# Altium schematic symbol library Antenna.SchLib: 4 symbols
Pins are listed as number, name and electrical type; pins without a type are passive.

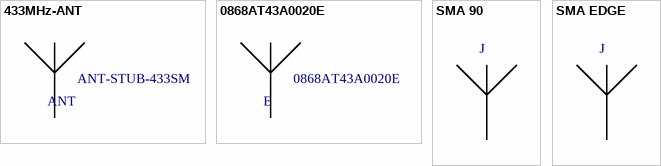
[diagram p0: symbols 433MHz-ANT to SMA EDGE]

## 433MHz-ANT
designator ANT  Manufacturer Code: ANT-STUB-433SM  (hidden comment: *)  (graphical)
Manufacturer: RF SOLUTIONS; Frequency: 433MHz; Impedance: 50 Ohm; Farnell Code: 2133440; Unit Price: 4,44 €
pins: 1, 2

## 0868AT43A0020E
designator E  Manufacturer Code: 0868AT43A0020E  (hidden comment: *)
Manufacturer: Johanson Technology Inc.; Frequency: 858~878MHz; Input Power: 3000mW; Impedance: 50 Ohm; Farnell Code: 1885493; Unit Price: 1,12 €
footprint 0868AT43A0020E (Footprint not found)
pins: 1, 2

## SMA 90
designator J  (value not drawn)
footprint SMA 90
pins: 1, 2

## SMA EDGE
designator J  (value not drawn)
footprint SMA EDGE
pins: 1, 2